# EAGLE library part SAMACSYS_PARTS_TSW-103-07-L-T (library ExportCompute Module)
CONN HEADER 9 POS .100" Source: Datasheet <http://suddendocs.samtec.com/catalog_english/tsw_th.pdf>
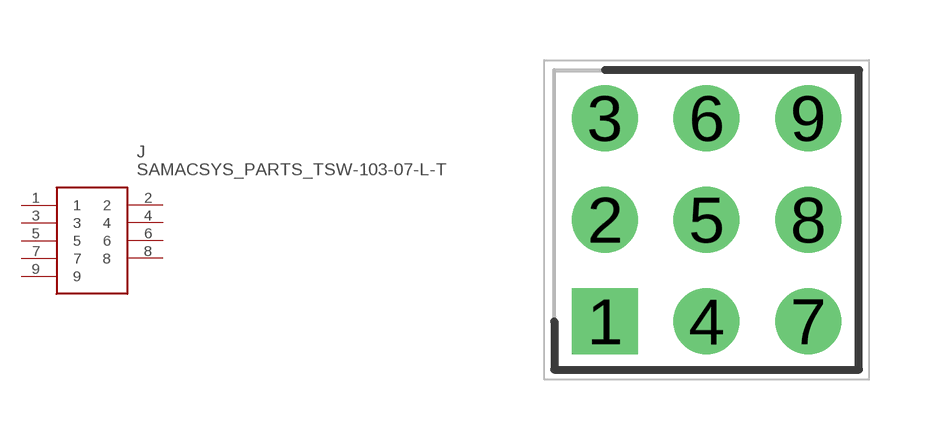
[diagram p20: symbol with the pads of SAMACSYS_PARTS_HDRV9W64P254_3X3_762X749X838P; footprint SAMACSYS_PARTS_HDRV9W64P254_3X3_762X749X838P]

Designator prefix J

## SAMACSYS_PARTS_TSW-103-07-L-T (DIGIKEY: SAM15360-ND; MANUFACTURER: SAMTEC; MOUSER: 200-TSW10307LT; MPN: TSW-103-07-L-T)  [SAMACSYS_PARTS_HDRV9W64P254_3X3_762X749X838P]
1  1
2  2
3  3
4  4
5  5
6  6
7  7
8  8
9  9

## Footprint SAMACSYS_PARTS_HDRV9W64P254_3X3_762X749X838P (pad centres in mm)
TSW-103-07-L-T
drill 1.1 pad 1.65 square: 1 0,0
drill 1.1 pad 1.65: 2 0,2.54; 3 0,5.08; 4 2.54,0; 5 2.54,2.54; 6 2.54,5.08; 7 5.08,0; 8 5.08,2.54; 9 5.08,5.08